# Altium schematic symbol library WA-SMSI_M3.SchLib: 36 symbols
Pins are listed as number, name and electrical type; pins without a type are passive.

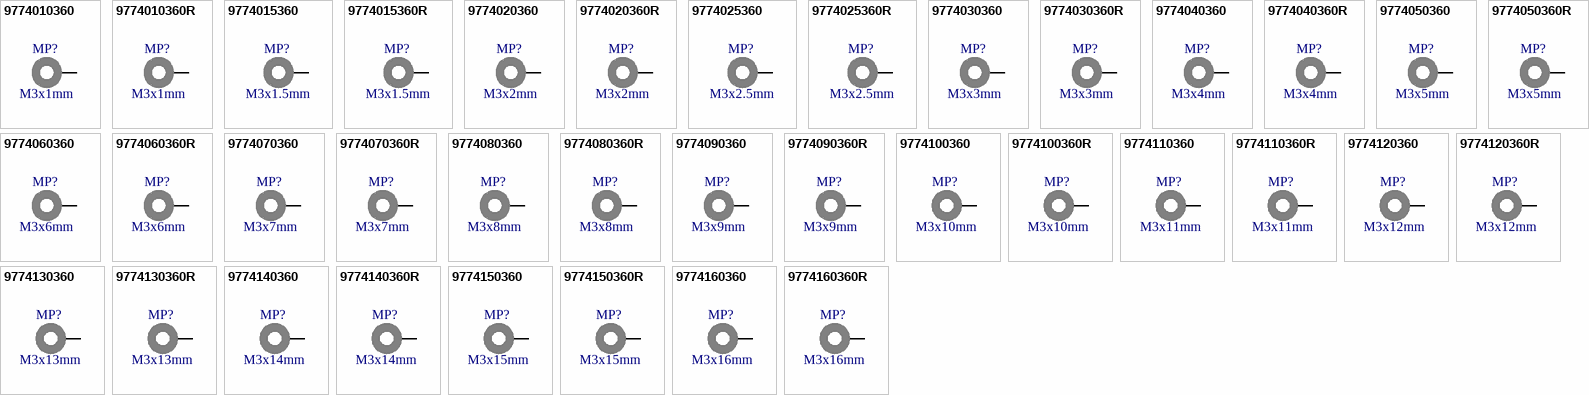
[diagram p0: symbols 9774010360 to 9774160360R]

## 9774010360
designator MP?, comment M3x1mm
WA-SMSI SMT Steel Spacer, M3 Thread Internal, OD 6mm, M3x1mm; Manufacturer Part Number: 9774010360; Manufacturer: Wurth Elektronik; Inner Diameter: 4.2mm; Surface: Tin; ComponentLink1Description: Manufacturer; ComponentLink1URL: http://www.we-online.de; ComponentLink2Description: Datasheet; ComponentLink2URL: https://www.we-online.com/catalog/datasheet/9774010360.pdf; Mounting Technology: SMT; Packaging: Bulk; Length: 1mm; Inner Thread Length: -; Operating Temperature: -55 to +150degC; Outer Diameter: 6mm; Published Date: April 2020; Material: Steel; Thread: M3
footprint 9774010360
pins: 1

## 9774010360R
designator MP?, comment M3x1mm
WA-SMSI SMT Steel Spacer, M3 Thread Internal, OD 6mm, M3x1mm; Manufacturer Part Number: 9774010360R; Manufacturer: Wurth Elektronik; Inner Diameter: 4.2mm; Surface: Tin; ComponentLink1Description: Manufacturer; ComponentLink1URL: http://www.we-online.de; ComponentLink2Description: Datasheet; ComponentLink2URL: https://www.we-online.com/catalog/datasheet/9774010360R.pdf; Mounting Technology: SMT; Packaging: Tape and Reel; Length: 1mm; Inner Thread Length: -; Operating Temperature: -55 to +150degC; Outer Diameter: 6mm; Published Date: April 2020; Material: Steel; Thread: M3
footprint 9774010360
pins: 1

## 9774015360
designator MP?, comment M3x1.5mm
WA-SMSI SMT Steel Spacer, M3 Thread Internal, OD 6mm, M3x1.5mm; Manufacturer Part Number: 9774015360; Manufacturer: Wurth Elektronik; Inner Diameter: 4.2mm; Surface: Tin; ComponentLink1Description: Manufacturer; ComponentLink1URL: http://www.we-online.de; ComponentLink2Description: Datasheet; ComponentLink2URL: https://www.we-online.com/catalog/datasheet/9774015360.pdf; Mounting Technology: SMT; Packaging: Bulk; Length: 1.5mm; Inner Thread Length: -; Operating Temperature: -55 to +150degC; Outer Diameter: 6mm; Published Date: April 2020; Material: Steel; Thread: M3
footprint 9774015360
pins: 1

## 9774015360R
designator MP?, comment M3x1.5mm
WA-SMSI SMT Steel Spacer, M3 Thread Internal, OD 6mm, M3x1.5mm; Manufacturer Part Number: 9774015360R; Manufacturer: Wurth Elektronik; Inner Diameter: 4.2mm; Surface: Tin; ComponentLink1Description: Manufacturer; ComponentLink1URL: http://www.we-online.de; ComponentLink2Description: Datasheet; ComponentLink2URL: https://www.we-online.com/catalog/datasheet/9774015360R.pdf; Mounting Technology: SMT; Packaging: Tape and Reel; Length: 1.5mm; Inner Thread Length: -; Operating Temperature: -55 to +150degC; Outer Diameter: 6mm; Published Date: April 2020; Material: Steel; Thread: M3
footprint 9774015360
pins: 1

## 9774020360
designator MP?, comment M3x2mm
WA-SMSI SMT Steel Spacer, M3 Thread Internal, OD 6mm, M3x2mm; Manufacturer Part Number: 9774020360; Manufacturer: Wurth Elektronik; Inner Diameter: 4.2mm; Surface: Tin; ComponentLink1Description: Manufacturer; ComponentLink1URL: http://www.we-online.de; ComponentLink2Description: Datasheet; ComponentLink2URL: https://www.we-online.com/catalog/datasheet/9774020360.pdf; Mounting Technology: SMT; Packaging: Bulk; Length: 2mm; Inner Thread Length: -; Operating Temperature: -55 to +150degC; Outer Diameter: 6mm; Published Date: April 2020; Material: Steel; Thread: M3
footprint 9774020360
pins: 1

## 9774020360R
designator MP?, comment M3x2mm
WA-SMSI SMT Steel Spacer, M3 Thread Internal, OD 6mm, M3x2mm; Manufacturer Part Number: 9774020360R; Manufacturer: Wurth Elektronik; Inner Diameter: 4.2mm; Surface: Tin; ComponentLink1Description: Manufacturer; ComponentLink1URL: http://www.we-online.de; ComponentLink2Description: Datasheet; ComponentLink2URL: https://www.we-online.com/catalog/datasheet/9774020360R.pdf; Mounting Technology: SMT; Packaging: Tape and Reel; Length: 2mm; Inner Thread Length: -; Operating Temperature: -55 to +150degC; Outer Diameter: 6mm; Published Date: April 2020; Material: Steel; Thread: M3
footprint 9774020360
pins: 1

## 9774025360
designator MP?, comment M3x2.5mm
WA-SMSI SMT Steel Spacer, M3 Thread Internal, OD 6mm, M3x2.5mm; Manufacturer Part Number: 9774025360; Manufacturer: Wurth Elektronik; Inner Diameter: 4.2mm; Surface: Tin; ComponentLink1Description: Manufacturer; ComponentLink1URL: http://www.we-online.de; ComponentLink2Description: Datasheet; ComponentLink2URL: https://www.we-online.com/catalog/datasheet/9774025360.pdf; Mounting Technology: SMT; Packaging: Bulk; Length: 2.5mm; Inner Thread Length: -; Operating Temperature: -55 to +150degC; Outer Diameter: 6mm; Published Date: April 2020; Material: Steel; Thread: M3
footprint 9774025360
pins: 1

## 9774025360R
designator MP?, comment M3x2.5mm
WA-SMSI SMT Steel Spacer, M3 Thread Internal, OD 6mm, M3x2.5mm; Manufacturer Part Number: 9774025360R; Manufacturer: Wurth Elektronik; Inner Diameter: 4.2mm; Surface: Tin; ComponentLink1Description: Manufacturer; ComponentLink1URL: http://www.we-online.de; ComponentLink2Description: Datasheet; ComponentLink2URL: https://www.we-online.com/catalog/datasheet/9774025360R.pdf; Mounting Technology: SMT; Packaging: Tape and Reel; Length: 2.5mm; Inner Thread Length: -; Operating Temperature: -55 to +150degC; Outer Diameter: 6mm; Published Date: April 2020; Material: Steel; Thread: M3
footprint 9774025360
pins: 1

## 9774030360
designator MP?, comment M3x3mm
WA-SMSI SMT Steel Spacer, M3 Thread Internal, OD 6mm, M3x3mm; Manufacturer Part Number: 9774030360; Manufacturer: Wurth Elektronik; Inner Diameter: 4.2mm; Surface: Tin; ComponentLink1Description: Manufacturer; ComponentLink1URL: http://www.we-online.de; ComponentLink2Description: Datasheet; ComponentLink2URL: https://www.we-online.com/catalog/datasheet/9774030360.pdf; Mounting Technology: SMT; Packaging: Bulk; Length: 3mm; Inner Thread Length: -; Operating Temperature: -55 to +150degC; Outer Diameter: 6mm; Published Date: April 2020; Material: Steel; Thread: M3
footprint 9774030360
pins: 1

## 9774030360R
designator MP?, comment M3x3mm
WA-SMSI SMT Steel Spacer, M3 Thread Internal, OD 6mm, M3x3mm; Manufacturer Part Number: 9774030360R; Manufacturer: Wurth Elektronik; Inner Diameter: 4.2mm; Surface: Tin; ComponentLink1Description: Manufacturer; ComponentLink1URL: http://www.we-online.de; ComponentLink2Description: Datasheet; ComponentLink2URL: https://www.we-online.com/catalog/datasheet/9774030360R.pdf; Mounting Technology: SMT; Packaging: Tape and Reel; Length: 3mm; Inner Thread Length: -; Operating Temperature: -55 to +150degC; Outer Diameter: 6mm; Published Date: April 2020; Material: Steel; Thread: M3
footprint 9774030360
pins: 1

## 9774040360
designator MP?, comment M3x4mm
WA-SMSI SMT Steel Spacer, M3 Thread Internal, OD 6mm, M3x4mm; Manufacturer Part Number: 9774040360; Manufacturer: Wurth Elektronik; Inner Diameter: 4.2mm; Surface: Tin; ComponentLink1Description: Manufacturer; ComponentLink1URL: http://www.we-online.de; ComponentLink2Description: Datasheet; ComponentLink2URL: https://www.we-online.com/catalog/datasheet/9774040360.pdf; Mounting Technology: SMT; Packaging: Bulk; Length: 4mm; Inner Thread Length: -; Operating Temperature: -55 to +150degC; Outer Diameter: 6mm; Published Date: April 2020; Material: Steel; Thread: M3
footprint 9774040360
pins: 1

## 9774040360R
designator MP?, comment M3x4mm
WA-SMSI SMT Steel Spacer, M3 Thread Internal, OD 6mm, M3x4mm; Manufacturer Part Number: 9774040360R; Manufacturer: Wurth Elektronik; Inner Diameter: 4.2mm; Surface: Tin; ComponentLink1Description: Manufacturer; ComponentLink1URL: http://www.we-online.de; ComponentLink2Description: Datasheet; ComponentLink2URL: https://www.we-online.com/catalog/datasheet/9774040360R.pdf; Mounting Technology: SMT; Packaging: Tape and Reel; Length: 4mm; Inner Thread Length: -; Operating Temperature: -55 to +150degC; Outer Diameter: 6mm; Published Date: April 2020; Material: Steel; Thread: M3
footprint 9774040360
pins: 1

## 9774050360
designator MP?, comment M3x5mm
WA-SMSI SMT Steel Spacer, M3 Thread Internal, OD 6mm, M3x5mm; Manufacturer Part Number: 9774050360; Manufacturer: Wurth Elektronik; Inner Diameter: 4.2mm; Surface: Tin; ComponentLink1Description: Manufacturer; ComponentLink1URL: http://www.we-online.de; ComponentLink2Description: Datasheet; ComponentLink2URL: https://www.we-online.com/catalog/datasheet/9774050360.pdf; Mounting Technology: SMT; Packaging: Bulk; Length: 5mm; Inner Thread Length: -; Operating Temperature: -55 to +150degC; Outer Diameter: 6mm; Published Date: April 2020; Material: Steel; Thread: M3
footprint 9774050360
pins: 1

## 9774050360R
designator MP?, comment M3x5mm
WA-SMSI SMT Steel Spacer, M3 Thread Internal, OD 6mm, M3x5mm; Manufacturer Part Number: 9774050360R; Manufacturer: Wurth Elektronik; Inner Diameter: 4.2mm; Surface: Tin; ComponentLink1Description: Manufacturer; ComponentLink1URL: http://www.we-online.de; ComponentLink2Description: Datasheet; ComponentLink2URL: https://www.we-online.com/catalog/datasheet/9774050360R.pdf; Mounting Technology: SMT; Packaging: Tape and Reel; Length: 5mm; Inner Thread Length: -; Operating Temperature: -55 to +150degC; Outer Diameter: 6mm; Published Date: April 2020; Material: Steel; Thread: M3
footprint 9774050360
pins: 1

## 9774060360
designator MP?, comment M3x6mm
WA-SMSI SMT Steel Spacer, M3 Thread Internal, OD 6mm, M3x6mm; Manufacturer Part Number: 9774060360; Manufacturer: Wurth Elektronik; Inner Diameter: 4.2mm; Surface: Tin; ComponentLink1Description: Manufacturer; ComponentLink1URL: http://www.we-online.de; ComponentLink2Description: Datasheet; ComponentLink2URL: https://www.we-online.com/catalog/datasheet/9774060360.pdf; Mounting Technology: SMT; Packaging: Bulk; Length: 6mm; Inner Thread Length: -; Operating Temperature: -55 to +150degC; Outer Diameter: 6mm; Published Date: April 2020; Material: Steel; Thread: M3
footprint 9774060360
pins: 1

## 9774060360R
designator MP?, comment M3x6mm
WA-SMSI SMT Steel Spacer, M3 Thread Internal, OD 6mm, M3x6mm; Manufacturer Part Number: 9774060360R; Manufacturer: Wurth Elektronik; Inner Diameter: 4.2mm; Surface: Tin; ComponentLink1Description: Manufacturer; ComponentLink1URL: http://www.we-online.de; ComponentLink2Description: Datasheet; ComponentLink2URL: https://www.we-online.com/catalog/datasheet/9774060360R.pdf; Mounting Technology: SMT; Packaging: Tape and Reel; Length: 6mm; Inner Thread Length: -; Operating Temperature: -55 to +150degC; Outer Diameter: 6mm; Published Date: April 2020; Material: Steel; Thread: M3
footprint 9774060360
pins: 1

## 9774070360
designator MP?, comment M3x7mm
WA-SMSI SMT Steel Spacer, M3 Thread Internal, OD 6mm, M3x7mm; Manufacturer Part Number: 9774070360; Manufacturer: Wurth Elektronik; Inner Diameter: 4.2mm; Surface: Tin; ComponentLink1Description: Manufacturer; ComponentLink1URL: http://www.we-online.de; ComponentLink2Description: Datasheet; ComponentLink2URL: https://www.we-online.com/catalog/datasheet/9774070360.pdf; Mounting Technology: SMT; Packaging: Bulk; Length: 7mm; Inner Thread Length: -; Operating Temperature: -55 to +150degC; Outer Diameter: 6mm; Published Date: April 2020; Material: Steel; Thread: M3
footprint 9774070360
pins: 1

## 9774070360R
designator MP?, comment M3x7mm
WA-SMSI SMT Steel Spacer, M3 Thread Internal, OD 6mm, M3x7mm; Manufacturer Part Number: 9774070360R; Manufacturer: Wurth Elektronik; Inner Diameter: 4.2mm; Surface: Tin; ComponentLink1Description: Manufacturer; ComponentLink1URL: http://www.we-online.de; ComponentLink2Description: Datasheet; ComponentLink2URL: https://www.we-online.com/catalog/datasheet/9774070360R.pdf; Mounting Technology: SMT; Packaging: Tape and Reel; Length: 7mm; Inner Thread Length: -; Operating Temperature: -55 to +150degC; Outer Diameter: 6mm; Published Date: April 2020; Material: Steel; Thread: M3
footprint 9774070360
pins: 1

## 9774080360
designator MP?, comment M3x8mm
WA-SMSI SMT Steel Spacer, M3 Thread Internal, OD 6mm, M3x8mm; Manufacturer Part Number: 9774080360; Manufacturer: Wurth Elektronik; Inner Diameter: 4.2mm; Surface: Tin; ComponentLink1Description: Manufacturer; ComponentLink1URL: http://www.we-online.de; ComponentLink2Description: Datasheet; ComponentLink2URL: https://www.we-online.com/catalog/datasheet/9774080360.pdf; Mounting Technology: SMT; Packaging: Bulk; Length: 8mm; Inner Thread Length: -; Operating Temperature: -55 to +150degC; Outer Diameter: 6mm; Published Date: April 2020; Material: Steel; Thread: M3
footprint 9774080360
pins: 1

## 9774080360R
designator MP?, comment M3x8mm
WA-SMSI SMT Steel Spacer, M3 Thread Internal, OD 6mm, M3x8mm; Manufacturer Part Number: 9774080360R; Manufacturer: Wurth Elektronik; Inner Diameter: 4.2mm; Surface: Tin; ComponentLink1Description: Manufacturer; ComponentLink1URL: http://www.we-online.de; ComponentLink2Description: Datasheet; ComponentLink2URL: https://www.we-online.com/catalog/datasheet/9774080360R.pdf; Mounting Technology: SMT; Packaging: Tape and Reel; Length: 8mm; Inner Thread Length: -; Operating Temperature: -55 to +150degC; Outer Diameter: 6mm; Published Date: April 2020; Material: Steel; Thread: M3
footprint 9774080360
pins: 1

## 9774090360
designator MP?, comment M3x9mm
WA-SMSI SMT Steel Spacer, M3 Thread Internal, OD 6mm, M3x9mm; Manufacturer Part Number: 9774090360; Manufacturer: Wurth Elektronik; Inner Diameter: 4.2mm; Surface: Tin; ComponentLink1Description: Manufacturer; ComponentLink1URL: http://www.we-online.de; ComponentLink2Description: Datasheet; ComponentLink2URL: https://www.we-online.com/catalog/datasheet/9774090360.pdf; Mounting Technology: SMT; Packaging: Bulk; Length: 9mm; Inner Thread Length: -; Operating Temperature: -55 to +150degC; Outer Diameter: 6mm; Published Date: April 2020; Material: Steel; Thread: M3
footprint 9774090360
pins: 1

## 9774090360R
designator MP?, comment M3x9mm
WA-SMSI SMT Steel Spacer, M3 Thread Internal, OD 6mm, M3x9mm; Manufacturer Part Number: 9774090360R; Manufacturer: Wurth Elektronik; Inner Diameter: 4.2mm; Surface: Tin; ComponentLink1Description: Manufacturer; ComponentLink1URL: http://www.we-online.de; ComponentLink2Description: Datasheet; ComponentLink2URL: https://www.we-online.com/catalog/datasheet/9774090360R.pdf; Mounting Technology: SMT; Packaging: Tape and Reel; Length: 9mm; Inner Thread Length: -; Operating Temperature: -55 to +150degC; Outer Diameter: 6mm; Published Date: April 2020; Material: Steel; Thread: M3
footprint 9774090360
pins: 1

## 9774100360
designator MP?, comment M3x10mm
WA-SMSI SMT Steel Spacer, M3 Thread Internal, OD 6mm, M3x10mm; Manufacturer Part Number: 9774100360; Manufacturer: Wurth Elektronik; Inner Diameter: 4.2mm; Surface: Tin; ComponentLink1Description: Manufacturer; ComponentLink1URL: http://www.we-online.de; ComponentLink2Description: Datasheet; ComponentLink2URL: https://www.we-online.com/catalog/datasheet/9774100360.pdf; Mounting Technology: SMT; Packaging: Bulk; Length: 10mm; Inner Thread Length: -; Operating Temperature: -55 to +150degC; Outer Diameter: 6mm; Published Date: April 2020; Material: Steel; Thread: M3
footprint 9774100360
pins: 1

## 9774100360R
designator MP?, comment M3x10mm
WA-SMSI SMT Steel Spacer, M3 Thread Internal, OD 6mm, M3x10mm; Manufacturer Part Number: 9774100360R; Manufacturer: Wurth Elektronik; Inner Diameter: 4.2mm; Surface: Tin; ComponentLink1Description: Manufacturer; ComponentLink1URL: http://www.we-online.de; ComponentLink2Description: Datasheet; ComponentLink2URL: https://www.we-online.com/catalog/datasheet/9774100360R.pdf; Mounting Technology: SMT; Packaging: Tape and Reel; Length: 10mm; Inner Thread Length: -; Operating Temperature: -55 to +150degC; Outer Diameter: 6mm; Published Date: April 2020; Material: Steel; Thread: M3
footprint 9774100360
pins: 1

## 9774110360
designator MP?, comment M3x11mm
WA-SMSI SMT Steel Spacer, M3 Thread Internal, OD 6mm, M3x11mm; Manufacturer Part Number: 9774110360; Manufacturer: Wurth Elektronik; Inner Diameter: 4.2mm; Surface: Tin; ComponentLink1Description: Manufacturer; ComponentLink1URL: http://www.we-online.de; ComponentLink2Description: Datasheet; ComponentLink2URL: https://www.we-online.com/catalog/datasheet/9774110360.pdf; Mounting Technology: SMT; Packaging: Bulk; Length: 11mm; Inner Thread Length: -; Operating Temperature: -55 to +150degC; Outer Diameter: 6mm; Published Date: April 2020; Material: Steel; Thread: M3
footprint 9774110360
pins: 1

## 9774110360R
designator MP?, comment M3x11mm
WA-SMSI SMT Steel Spacer, M3 Thread Internal, OD 6mm, M3x11mm; Manufacturer Part Number: 9774110360R; Manufacturer: Wurth Elektronik; Inner Diameter: 4.2mm; Surface: Tin; ComponentLink1Description: Manufacturer; ComponentLink1URL: http://www.we-online.de; ComponentLink2Description: Datasheet; ComponentLink2URL: https://www.we-online.com/catalog/datasheet/9774110360R.pdf; Mounting Technology: SMT; Packaging: Tape and Reel; Length: 11mm; Inner Thread Length: -; Operating Temperature: -55 to +150degC; Outer Diameter: 6mm; Published Date: April 2020; Material: Steel; Thread: M3
footprint 9774110360
pins: 1

## 9774120360
designator MP?, comment M3x12mm
WA-SMSI SMT Steel Spacer, M3 Thread Internal, OD 6mm, M3x12mm; Manufacturer Part Number: 9774120360; Manufacturer: Wurth Elektronik; Inner Diameter: 4.2mm; Surface: Tin; ComponentLink1Description: Manufacturer; ComponentLink1URL: http://www.we-online.de; ComponentLink2Description: Datasheet; ComponentLink2URL: https://www.we-online.com/catalog/datasheet/9774120360.pdf; Mounting Technology: SMT; Packaging: Bulk; Length: 12mm; Inner Thread Length: -; Operating Temperature: -55 to +150degC; Outer Diameter: 6mm; Published Date: April 2020; Material: Steel; Thread: M3
footprint 9774120360
pins: 1

## 9774120360R
designator MP?, comment M3x12mm
WA-SMSI SMT Steel Spacer, M3 Thread Internal, OD 6mm, M3x12mm; Manufacturer Part Number: 9774120360R; Manufacturer: Wurth Elektronik; Inner Diameter: 4.2mm; Surface: Tin; ComponentLink1Description: Manufacturer; ComponentLink1URL: http://www.we-online.de; ComponentLink2Description: Datasheet; ComponentLink2URL: https://www.we-online.com/catalog/datasheet/9774120360R.pdf; Mounting Technology: SMT; Packaging: Tape and Reel; Length: 12mm; Inner Thread Length: -; Operating Temperature: -55 to +150degC; Outer Diameter: 6mm; Published Date: April 2020; Material: Steel; Thread: M3
footprint 9774120360
pins: 1

## 9774130360
designator MP?, comment M3x13mm
WA-SMSI SMT Steel Spacer, M3 Thread Internal, OD 6mm, M3x13mm; Manufacturer Part Number: 9774130360; Manufacturer: Wurth Elektronik; Inner Diameter: 4.2mm; Surface: Tin; ComponentLink1Description: Manufacturer; ComponentLink1URL: http://www.we-online.de; ComponentLink2Description: Datasheet; ComponentLink2URL: https://www.we-online.com/catalog/datasheet/9774130360.pdf; Mounting Technology: SMT; Packaging: Bulk; Length: 13mm; Inner Thread Length: -; Operating Temperature: -55 to +150degC; Outer Diameter: 6mm; Published Date: April 2020; Material: Steel; Thread: M3
footprint 9774130360
pins: 1

## 9774130360R
designator MP?, comment M3x13mm
WA-SMSI SMT Steel Spacer, M3 Thread Internal, OD 6mm, M3x13mm; Manufacturer Part Number: 9774130360R; Manufacturer: Wurth Elektronik; Inner Diameter: 4.2mm; Surface: Tin; ComponentLink1Description: Manufacturer; ComponentLink1URL: http://www.we-online.de; ComponentLink2Description: Datasheet; ComponentLink2URL: https://www.we-online.com/catalog/datasheet/9774130360R.pdf; Mounting Technology: SMT; Packaging: Tape and Reel; Length: 13mm; Inner Thread Length: -; Operating Temperature: -55 to +150degC; Outer Diameter: 6mm; Published Date: April 2020; Material: Steel; Thread: M3
footprint 9774130360
pins: 1

## 9774140360
designator MP?, comment M3x14mm
WA-SMSI SMT Steel Spacer, M3 Thread Internal, OD 6mm, M3x14mm; Manufacturer Part Number: 9774140360; Manufacturer: Wurth Elektronik; Inner Diameter: 4.2mm; Surface: Tin; ComponentLink1Description: Manufacturer; ComponentLink1URL: http://www.we-online.de; ComponentLink2Description: Datasheet; ComponentLink2URL: https://www.we-online.com/catalog/datasheet/9774140360.pdf; Mounting Technology: SMT; Packaging: Bulk; Length: 14mm; Inner Thread Length: -; Operating Temperature: -55 to +150degC; Outer Diameter: 6mm; Published Date: April 2020; Material: Steel; Thread: M3
footprint 9774140360
pins: 1

## 9774140360R
designator MP?, comment M3x14mm
WA-SMSI SMT Steel Spacer, M3 Thread Internal, OD 6mm, M3x14mm; Manufacturer Part Number: 9774140360R; Manufacturer: Wurth Elektronik; Inner Diameter: 4.2mm; Surface: Tin; ComponentLink1Description: Manufacturer; ComponentLink1URL: http://www.we-online.de; ComponentLink2Description: Datasheet; ComponentLink2URL: https://www.we-online.com/catalog/datasheet/9774140360R.pdf; Mounting Technology: SMT; Packaging: Tape and Reel; Length: 14mm; Inner Thread Length: -; Operating Temperature: -55 to +150degC; Outer Diameter: 6mm; Published Date: April 2020; Material: Steel; Thread: M3
footprint 9774140360
pins: 1

## 9774150360
designator MP?, comment M3x15mm
WA-SMSI SMT Steel Spacer, M3 Thread Internal, OD 6mm, M3x15mm; Manufacturer Part Number: 9774150360; Manufacturer: Wurth Elektronik; Inner Diameter: 4.2mm; Surface: Tin; ComponentLink1Description: Manufacturer; ComponentLink1URL: http://www.we-online.de; ComponentLink2Description: Datasheet; ComponentLink2URL: https://www.we-online.com/catalog/datasheet/9774150360.pdf; Mounting Technology: SMT; Packaging: Bulk; Length: 15mm; Inner Thread Length: -; Operating Temperature: -55 to +150degC; Outer Diameter: 6mm; Published Date: April 2020; Material: Steel; Thread: M3
footprint 9774150360
pins: 1

## 9774150360R
designator MP?, comment M3x15mm
WA-SMSI SMT Steel Spacer, M3 Thread Internal, OD 6mm, M3x15mm; Manufacturer Part Number: 9774150360R; Manufacturer: Wurth Elektronik; Inner Diameter: 4.2mm; Surface: Tin; ComponentLink1Description: Manufacturer; ComponentLink1URL: http://www.we-online.de; ComponentLink2Description: Datasheet; ComponentLink2URL: https://www.we-online.com/catalog/datasheet/9774150360R.pdf; Mounting Technology: SMT; Packaging: Tape and Reel; Length: 15mm; Inner Thread Length: -; Operating Temperature: -55 to +150degC; Outer Diameter: 6mm; Published Date: April 2020; Material: Steel; Thread: M3
footprint 9774150360
pins: 1

## 9774160360
designator MP?, comment M3x16mm
WA-SMSI SMT Steel Spacer, M3 Thread Internal, OD 6mm, M3x16mm; Manufacturer Part Number: 9774160360; Manufacturer: Wurth Elektronik; Inner Diameter: 4.2mm; Surface: Tin; ComponentLink1Description: Manufacturer; ComponentLink1URL: http://www.we-online.de; ComponentLink2Description: Datasheet; ComponentLink2URL: https://www.we-online.com/catalog/datasheet/9774160360.pdf; Mounting Technology: SMT; Packaging: Bulk; Length: 16mm; Inner Thread Length: -; Operating Temperature: -55 to +150degC; Outer Diameter: 6mm; Published Date: May 2020; Material: Steel; Thread: M3
footprint 9774160360
pins: 1

## 9774160360R
designator MP?, comment M3x16mm
WA-SMSI SMT Steel Spacer, M3 Thread Internal, OD 6mm, M3x16mm; Manufacturer Part Number: 9774160360R; Manufacturer: Wurth Elektronik; Inner Diameter: 4.2mm; Surface: Tin; ComponentLink1Description: Manufacturer; ComponentLink1URL: http://www.we-online.de; ComponentLink2Description: Datasheet; ComponentLink2URL: https://www.we-online.com/catalog/datasheet/9774160360R.pdf; Mounting Technology: SMT; Packaging: Tape and Reel; Length: 16mm; Inner Thread Length: -; Operating Temperature: -55 to +150degC; Outer Diameter: 6mm; Published Date: May 2020; Material: Steel; Thread: M3
footprint 9774160360
pins: 1